# Altium schematic symbol library MFR-25FBF52-10K1_MFR-25FBF52-10K.SCHLIB: 1 symbol
Pins are listed as number, name and electrical type; pins without a type are passive.

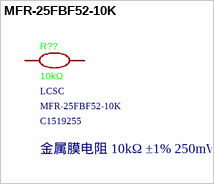
[diagram p0: symbol MFR-25FBF52-10K]

## MFR-25FBF52-10K
designator R??, comment 10kΩ  Supplier: LCSC  Supplier Part: C1519255  Manufacturer Part: MFR-25FBF52-10K  LCSC Part Name: 金属膜电阻 10kΩ ±1% 250mW
Manufacturer: YAGEO(国巨); Add into BOM: yes; Tolerance: ±1%; Power(Watts): 250mW; Temperature Coefficient: ±100ppm/℃; Symbol: MFR-25FBF52-10K; Device: MFR-25FBF52-10K; Supplier Footprint: 插件,D2.4xL6.3mm; JLCPCB Part Class: Extended Part; Datasheet: https://atta.szlcsc.com/upload/public/pdf/source/20210908/3C41728C91B3E25B71017F60FFBE4CE1.pdf; Convert to PCB: yes; Type: Metal Film Resistors; Value: 10kΩ; Operating Temperature Range: -55℃~+155℃
footprint RES-TH_BD2.4-L6.3-P10.30-D0.6
3D model RES-TH_BD2.4-L6.3-P10.30-D0.6
pins: 1, 2